# Altium schematic symbol library MCP4728-E_UN.SCHLIB: 1 symbol
Pins are listed as number, name and electrical type; pins without a type are passive.

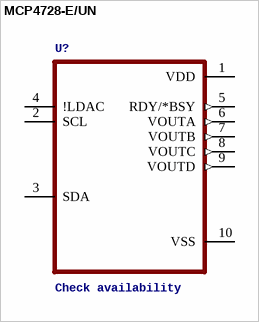
[diagram p0: symbol MCP4728-E/UN]

## MCP4728-E/UN
designator U?, comment Check availability
GateName_1: A; SymbolName_1: MCP4728-E/UN; Description: 12 Bit Digital to Analog Converter 4 10-MSOP; MF: Microchip; LibraryName: MCP4728-E_UN; DeviceSetName: MCP4728-E/UN; MP: MCP4728-E/UN; Availability: In Stock; Purchase-URL: https://pricing.snapeda.com/search/part/MCP4728-E/UN/?ref=eda; Package: MSOP-10 Microchip; Price: None
footprint SOP50P490X110-10N
pins: 1 VDD (power), 2 SCL, 3 SDA, 4 !LDAC, 5 RDY/*BSY (out), 6 VOUTA (out), 7 VOUTB (out), 8 VOUTC (out), 9 VOUTD (out), 10 VSS (power)